# Altium footprint library Integrados.PcbLib: 13 footprints
Each footprint in its own frame and in the unit in brackets; x right, y up, seen from the top. Pads: shape width x height; smd on the part's side, far side on the other; paste and mask are expansions set on the pad; w line width, h text height; cw(c..) or ccw(c..) is an arc to the next point about the centre after c.
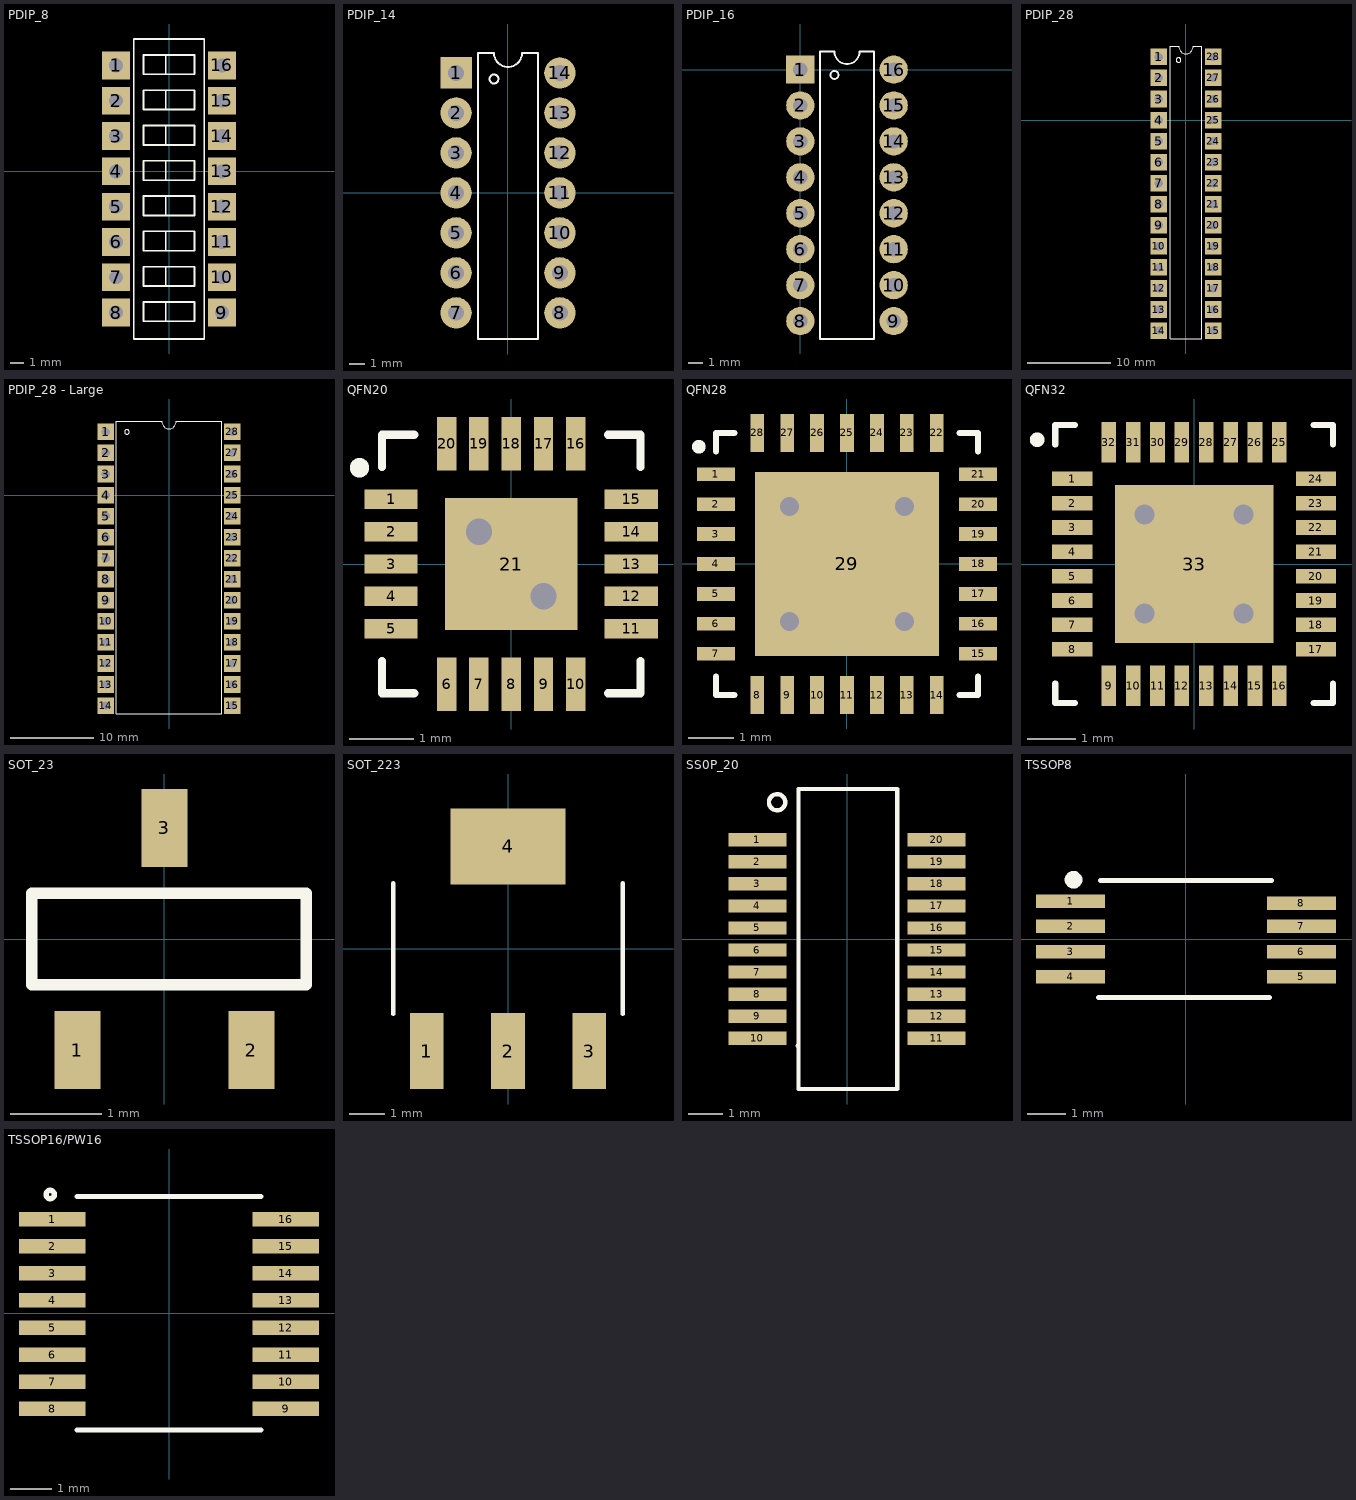
[diagram p0: the footprints below, top view; thin cyan lines are the x and y axes]

## PDIP_8 [mm]
pads (16):
  rect 2x2 hole 1 unplated: 1(-3.81,7.62) 2(-3.81,5.08) 3(-3.81,2.54) 4(-3.81,0) 5(-3.81,-2.54) 6(-3.81,-5.08) 7(-3.81,-7.62) 8(-3.81,-10.16) 9(3.81,-10.16) 10(3.81,-7.62) 11(3.81,-5.08) 12(3.81,-2.54) 13(3.81,0) 14(3.81,2.54) 15(3.81,5.08) 16(3.81,7.62)
Top Overlay:
  lines w0.127: -0.229,-10.795 -0.229,-9.398 ; -0.229,-8.255 -0.229,-6.858 ; -0.229,-5.715 -0.229,-4.318 ; -0.229,-3.175 -0.229,-1.778 ; -0.229,-0.635 -0.229,0.762 ; -0.229,1.905 -0.229,3.302 ; -0.229,4.445 -0.229,5.842 ; -0.229,6.985 -0.229,8.382 ; -2.54,-12.065 2.54,-12.065 2.54,9.525 -2.54,9.525 -2.54,8.89 -2.54,-12.065 ; -1.829,-10.795 1.829,-10.795 1.829,-9.398 -1.829,-9.398 -1.829,-10.795 ; -1.829,-8.255 -1.829,-6.858 1.829,-6.858 1.829,-8.255 -1.829,-8.255 ; -1.829,-5.715 -1.829,-4.318 1.829,-4.318 1.829,-5.715 -1.829,-5.715 ; -1.829,-3.175 -1.829,-1.778 1.829,-1.778 1.829,-3.175 -1.829,-3.175 ; -1.829,-0.635 -1.829,0.762 1.829,0.762 1.829,-0.635 -1.829,-0.635 ; -1.829,1.905 -1.829,3.302 1.829,3.302 1.829,1.905 -1.829,1.905 ; -1.829,4.445 -1.829,5.842 1.829,5.842 1.829,4.445 -1.829,4.445 ; -1.829,6.985 1.829,6.985 1.829,8.382 -1.829,8.382 -1.829,6.985

## PDIP_14 [mm]
pads (14):
  rect 2x2 hole 1 unplated: 1(-3.302,7.62)
  round 2 hole 1 unplated: 2(-3.302,5.08) 3(-3.302,2.54) 4(-3.302,0) 5(-3.302,-2.54) 6(-3.302,-5.08) 7(-3.302,-7.62) 8(3.302,-7.62) 9(3.302,-5.08) 10(3.302,-2.54) 11(3.302,0) 12(3.302,2.54) 13(3.302,5.08) 14(3.302,7.62)
Top Overlay:
  circle w0.127: c-0.889,7.239 r0.284
  lines w0.127: -1.905,-9.28 -1.905,8.89 -0.889,8.89 ccw(c0,8.89) 0.889,8.89 1.905,8.89 1.905,-9.28 -1.905,-9.28

## PDIP_16 [mm]
pads (16):
  rect 2x2 hole 1 unplated: 1(0,0)
  round 2 hole 1 unplated: 2(0,-2.54) 3(0,-5.08) 4(0,-7.62) 5(0,-10.16) 6(0,-12.7) 7(0,-15.24) 8(0,-17.78) 9(6.604,-17.78) 10(6.604,-15.24) 11(6.604,-12.7) 12(6.604,-10.16) 13(6.604,-7.62) 14(6.604,-5.08) 15(6.604,-2.54) 16(6.604,0)
Top Overlay:
  circle w0.127: c2.413,-0.381 r0.284
  lines w0.127: 1.397,-19.05 5.207,-19.05 5.207,1.27 4.191,1.27 cw(c3.302,1.27) 2.413,1.27 1.397,1.27 1.397,-19.05

## PDIP_28 [mm]
pads (28):
  rect 2x2 hole 1 unplated: 1(-3.302,7.62) 2(-3.302,5.08) 3(-3.302,2.54) 4(-3.302,0) 5(-3.302,-2.54) 6(-3.302,-5.08) 7(-3.302,-7.62) 8(-3.302,-10.16) 9(-3.302,-12.7) 10(-3.302,-15.24) 11(-3.302,-17.78) 12(-3.302,-20.32) 13(-3.302,-22.86) 14(-3.302,-25.4) 15(3.302,-25.4) 16(3.302,-22.86) 17(3.302,-20.32) 18(3.302,-17.78) 19(3.302,-15.24) 20(3.302,-12.7) 21(3.302,-10.16) 22(3.302,-7.62) 23(3.302,-5.08) 24(3.302,-2.54) 25(3.302,0) 26(3.302,2.54) 27(3.302,5.08) 28(3.302,7.62)
Top Overlay:
  circle w0.127: c-0.889,7.239 r0.284
  lines w0.127: -1.905,-26.416 1.905,-26.416 1.905,8.89 0.889,8.89 cw(c0,8.89) -0.889,8.89 -1.905,8.89 -1.905,-26.416

## PDIP_28 - Large [mm]
pads (28):
  rect 2x2 hole 1 unplated: 1(-7.62,7.62) 2(-7.62,5.08) 3(-7.62,2.54) 4(-7.62,0) 5(-7.62,-2.54) 6(-7.62,-5.08) 7(-7.62,-7.62) 8(-7.62,-10.16) 9(-7.62,-12.7) 10(-7.62,-15.24) 11(-7.62,-17.78) 12(-7.62,-20.32) 13(-7.62,-22.86) 14(-7.62,-25.4) 15(7.62,-25.4) 16(7.62,-22.86) 17(7.62,-20.32) 18(7.62,-17.78) 19(7.62,-15.24) 20(7.62,-12.7) 21(7.62,-10.16) 22(7.62,-7.62) 23(7.62,-5.08) 24(7.62,-2.54) 25(7.62,0) 26(7.62,2.54) 27(7.62,5.08) 28(7.62,7.62)
Top Overlay:
  circle w0.127: c-5.08,7.62 r0.284
  lines w0.127: -6.35,-26.416 6.35,-26.416 6.35,8.89 0.889,8.89 cw(c0,8.89) -0.889,8.89 -6.35,8.89 -6.35,-26.416

## QFN20 [mm]
pads (21):
  rect 0.825x0.3 smd mask+0.07: 1(-1.86,1) 2(-1.86,0.5) 3(-1.86,0) 4(-1.86,-0.5) 5(-1.86,-1) 11(1.86,-1) 12(1.86,-0.5) 13(1.86,0) 14(1.86,0.5) 15(1.86,1)
  rect 0.3x0.825 smd mask+0.07: 6(-1,-1.86) 7(-0.5,-1.86) 8(0,-1.86) 9(0.5,-1.86) 10(1,-1.86) 16(1,1.86) 17(0.5,1.86) 18(0,1.86) 19(-0.5,1.86) 20(-1,1.86)
  rect 2.05x2.05 smd: 21(0,0)
via 0.5,-0.5 diameter 0.813 hole 0.406
via -0.5,0.5 diameter 0.813 hole 0.406
Top Overlay:
  circle w0.254: c-2.35,1.49 r0.022
  lines w0.127: -2,-1.5 -2,-2 -1.5,-2 ; -2,1.5 -2,2 -1.5,2 ; 1.5,-2 2,-2 ; 1.5,2 2,2 ; 2,-1.5 2,-2 ; 2,1.5 2,2 ; 2,-2 2,-2 ; 2,2 2,2 ; 2,2 2,2

## QFN28 [mm]
pads (29):
  rect 0.825x0.3 smd mask+0.07: 1(-2.85,1.95) 2(-2.85,1.3) 3(-2.85,0.65) 4(-2.85,0) 5(-2.85,-0.65) 6(-2.85,-1.3) 7(-2.85,-1.95) 15(2.85,-1.95) 16(2.85,-1.3) 17(2.85,-0.65) 18(2.85,0) 19(2.85,0.65) 20(2.85,1.3) 21(2.85,1.95)
  rect 0.3x0.825 smd mask+0.07: 8(-1.95,-2.85) 9(-1.3,-2.85) 10(-0.65,-2.85) 11(0,-2.85) 12(0.65,-2.85) 13(1.3,-2.85) 14(1.95,-2.85) 22(1.95,2.85) 23(1.3,2.85) 24(0.65,2.85) 25(0,2.85) 26(-0.65,2.85) 27(-1.3,2.85) 28(-1.95,2.85)
  rect 4x4 smd: 29(0,0)
via 1.25,1.25 diameter 0.813 hole 0.406
via 1.25,-1.25 diameter 0.813 hole 0.406
via -1.25,-1.25 diameter 0.813 hole 0.406
via -1.25,1.25 diameter 0.813 hole 0.406
Top Overlay:
  circle w0.254: c-3.222,2.55 r0.022
  lines w0.127: -2.85,-2.45 -2.85,-2.85 -2.45,-2.85 ; -2.85,2.45 -2.85,2.85 -2.45,2.85 ; 2.45,-2.85 2.85,-2.85 2.85,-2.45 ; 2.45,2.85 2.85,2.85 2.85,2.45

## QFN32 [mm]
pads (33):
  rect 0.825x0.3 smd mask+0.07: 1(-2.5,1.75) 2(-2.5,1.25) 3(-2.5,0.75) 4(-2.5,0.25) 5(-2.5,-0.25) 6(-2.5,-0.75) 7(-2.5,-1.25) 8(-2.5,-1.75) 17(2.5,-1.75) 18(2.5,-1.25) 19(2.5,-0.75) 20(2.5,-0.25) 21(2.5,0.25) 22(2.5,0.75) 23(2.5,1.25) 24(2.5,1.75)
  rect 0.3x0.825 smd mask+0.07: 9(-1.75,-2.5) 10(-1.25,-2.5) 11(-0.75,-2.5) 12(-0.25,-2.5) 13(0.25,-2.5) 14(0.75,-2.5) 15(1.25,-2.5) 16(1.75,-2.5) 25(1.75,2.5) 26(1.25,2.5) 27(0.75,2.5) 28(0.25,2.5) 29(-0.25,2.5) 30(-0.75,2.5) 31(-1.25,2.5) 32(-1.75,2.5)
  rect 3.25x3.25 smd: 33(0,0)
via 1.016,1.016 diameter 0.813 hole 0.406
via -1.016,1.016 diameter 0.813 hole 0.406
via -1.016,-1.016 diameter 0.813 hole 0.406
via 1.016,-1.016 diameter 0.813 hole 0.406
Top Overlay:
  circle w0.254: c-3.222,2.55 r0.022
  lines w0.127: -2.85,-2.45 -2.85,-2.85 -2.45,-2.85 ; -2.85,2.45 -2.85,2.85 -2.45,2.85 ; 2.45,-2.85 2.85,-2.85 2.85,-2.45 ; 2.45,2.85 2.85,2.85 2.85,2.45

## SOT_23 [mm] "SOT 23"
pads (3):
  rect 0.5x0.85 smd: 1(-0.95,-1.212) 2(0.95,-1.212) 3(0,1.213)
Top Overlay:
  lines w0.127: -1.45,-0.5 -1.45,0.5 1.55,0.5 1.55,-0.5 -1.45,-0.5

## SOT_223 [mm] "SOT 223"
pads (4):
  rect 0.95x2.15 smd: 1(-2.3,-2.9) 2(0,-2.9) 3(2.3,-2.9)
  rect 3.25x2.15 smd: 4(0,2.9)
Top Overlay:
  lines w0.127: -3.25,-1.85 -3.25,1.85 ; 3.25,-1.85 3.25,1.85

## SS0P_20 [mil]
pads (20):
  rect 66x15 smd: 1(-101.5,112.5) 2(-101.5,87.5) 3(-101.5,62.5) 4(-101.5,37.5) 5(-101.5,12.5) 6(-101.5,-12.5) 7(-101.5,-37.5) 8(-101.5,-62.5) 9(-101.5,-87.5) 10(-101.5,-112.5) 11(101.5,-112.5) 12(101.5,-87.5) 13(101.5,-62.5) 14(101.5,-37.5) 15(101.5,-12.5) 16(101.5,12.5) 17(101.5,37.5) 18(101.5,62.5) 19(101.5,87.5) 20(101.5,112.5)
Top Overlay:
  circle w5: c-79.22,155 r9.22
  lines w5: -56,-121 -55,-120 ; 55,170 -55,170 -55,-170 57,-170 57,170

## TSSOP8 [mm]
pads (8):
  rect 1.78x0.35 smd: 1(-2.97,0.975) 2(-2.97,0.325) 3(-2.97,-0.325) 4(-2.97,-0.975) 5(2.97,-0.975) 6(2.97,-0.325) 7(2.97,0.325) 8(2.97,0.925)
Top Overlay:
  circle w0.254: c-2.894,1.524 r0.1
  lines w0.127: -2.25,-1.5 2.15,-1.5 ; -2.2,1.5 2.2,1.5

## TSSOP16/PW16 [mm]
pads (16):
  rect 1.6x0.35 smd: 1(-2.8,2.257) 2(-2.8,1.607) 3(-2.8,0.957) 4(-2.8,0.307) 5(-2.8,-0.343) 6(-2.8,-0.993) 7(-2.8,-1.643) 8(-2.8,-2.293) 9(2.8,-2.293) 10(2.8,-1.643) 11(2.8,-0.993) 12(2.8,-0.343) 13(2.8,0.307) 14(2.8,0.957) 15(2.8,1.607) 16(2.8,2.257)
Top Overlay:
  circle w0.127: c-2.85,2.85 r0.1
  lines w0.127: -2.2,-2.8 2.2,-2.8 ; -2.2,2.8 2.2,2.8